# Altium footprint library QuadESDDiode_TEConnectivity_SESD0802Q4UG_5-PIN.PcbLib: 1 footprints
Each footprint in its own frame and in the unit in brackets; x right, y up, seen from the top. Pads: shape width x height; smd on the part's side, far side on the other; paste and mask are expansions set on the pad; w line width, h text height; cw(c..) or ccw(c..) is an arc to the next point about the centre after c.
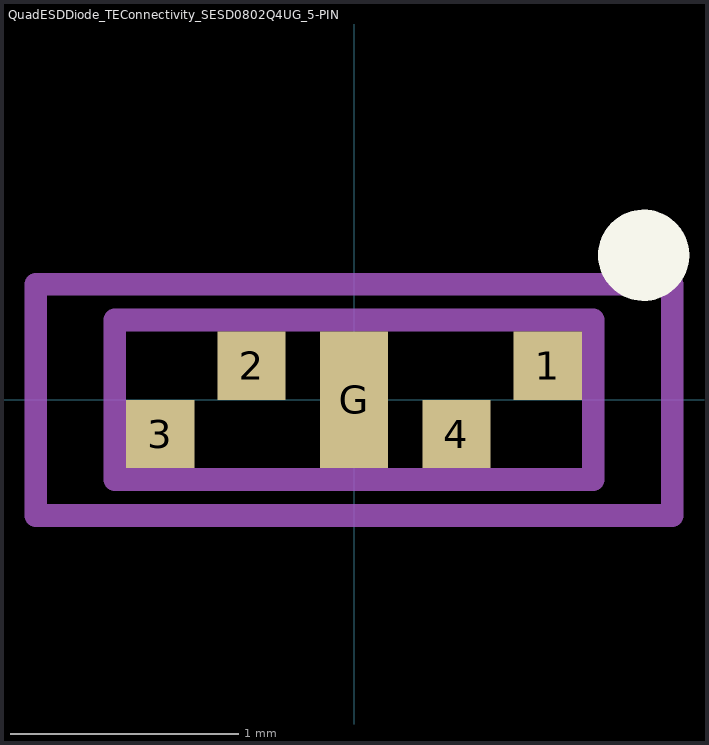
[diagram p0: the footprint, top view; thin cyan lines are the x and y axes]

## QuadESDDiode_TEConnectivity_SESD0802Q4UG_5-PIN [mm]
height 0.43
pads (5):
  rect 0.3x0.3 smd: 1(0.85,0.15) 2(-0.45,0.15) 3(-0.85,-0.15) 4(0.45,-0.15)
  rect 0.3x0.6 smd: G(0,0)
Top Overlay:
  circle w0.2: c1.272,0.635 r0.1
Mechanical 13:
  lines w0.1: -1.05,-0.35 -1.05,0.35 1.05,0.35 1.05,-0.35 -1.05,-0.35
Mechanical 15:
  lines w0.1: -1.397,-0.508 1.397,-0.508 1.397,0.508 -1.397,0.508 -1.397,-0.508
3D body: height 0.43, standoff 0, extent -1.05,-0.35 1.05,0.35